# Altium footprint library Diode.PcbLib: 4 footprints
Each footprint in its own frame and in the unit in brackets; x right, y up, seen from the top. Pads: shape width x height; smd on the part's side, far side on the other; paste and mask are expansions set on the pad; w line width, h text height; cw(c..) or ccw(c..) is an arc to the next point about the centre after c.
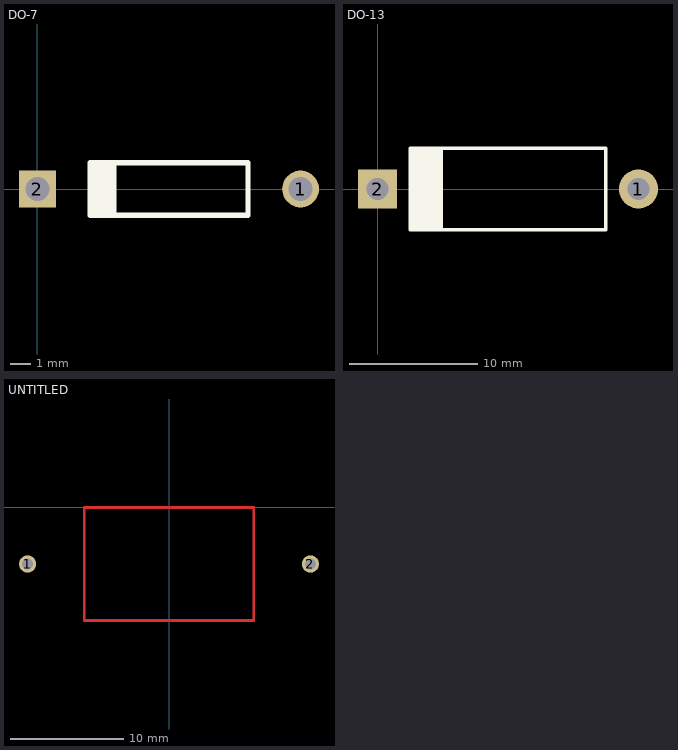
[diagram p0: the footprints below, top view; thin cyan lines are the x and y axes]

## DO-7 [mil]
pads (2):
  round 70 hole 46: 1(500,0)
  rect 70x70 hole 46: 2(0,0)
Top Overlay:
  region: 100,-50 150,-50 150,50 100,50
  lines w10: 100,-50 400,-50 400,50 100,50 100,-50

## DO-13 [mil]
pads (2):
  round 120 hole 68: 1(800,0)
  rect 120x120 hole 68: 2(0,0)
Top Overlay:
  region: 100,-125 200,-125 200,125 100,125
  region: 100,-125 175,-125
  lines w10: 100,-125 700,-125 700,125 100,125 100,-125

## PCBComponent_1 [mil]

## UNTITLED [mil]
pads (2):
  round 60 hole 38: 1(-492.13,-196.85) 2(492.13,-196.85)
Top Layer:
  lines w9.84: -295.28,-393.7 295.28,-393.7 295.28,0 -295.28,0 -295.28,-393.7